# Altium schematic symbol library MyAll_SchLib.SchLib: 2 symbols
Pins are listed as number, name and electrical type; pins without a type are passive.

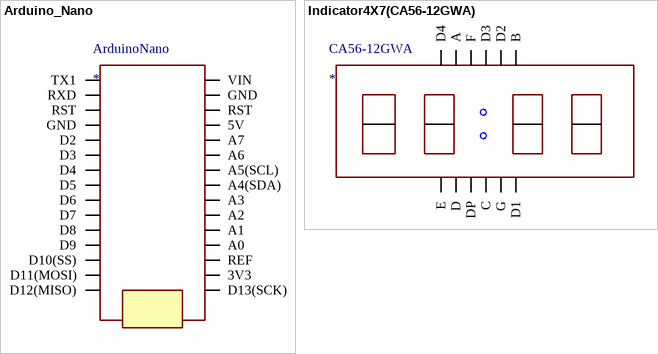
[diagram p0: symbols Arduino_Nano to Indicator4X7(CA56-12GWA)]

## Arduino_Nano
designator ArduinoNano
footprint Arduino_Nano
pins: 1 TX1, 2 RXD, 3 RST, 4 GND, 5 D2, 6 D3, 7 D4, 8 D5, 9 D6, 10 D7, 11 D8, 12 D9, 13 D10(SS), 14 D11(MOSI), 15 D12(MISO), 16 D13(SCK), 17 3V3 (power), 18 REF, 19 A0, 20 A1, 21 A2, 22 A3, 23 A4(SDA), 24 A5(SCL), 25 A6, 26 A7, 27 5V (power), 28 RST, 29 GND, 30 VIN (power)

## Indicator4X7(CA56-12GWA)
designator CA56-12GWA
footprint Indicator4X7(CA56-12GWA)
pins: 1 E (power), 2 D (power), 3 DP (power), 4 C (power), 5 G (power), 6 D1 (power), 7 B (power), 8 D2 (power), 9 D3 (power), 10 F (power), 11 A (power), 12 D4 (power)